# EAGLE library part AS6C4008 (library cpcfpga)
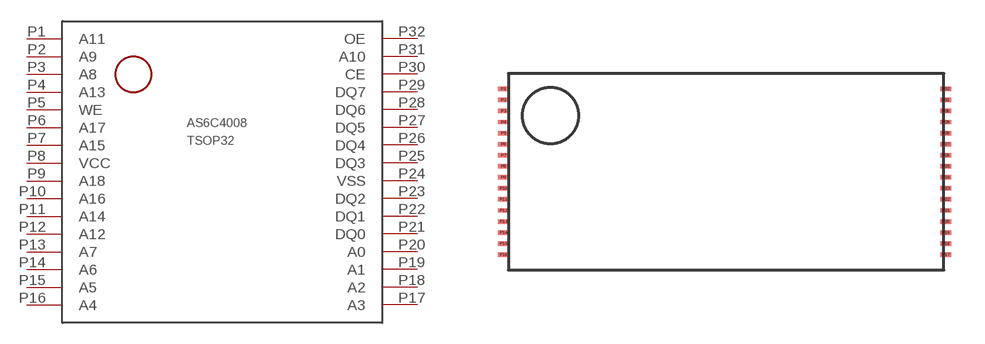
[diagram p2: symbol with the pads of TSOP32; footprint TSOP32]

Designator prefix -

## AS6C4008  [TSOP32]
P1  A11
P2  A9
P3  A8
P4  A13
P5  WE
P6  A17
P7  A15
P8  VCC
P9  A18
P10  A16
P11  A14
P12  A12
P13  A7
P14  A6
P15  A5
P16  A4
P17  A3
P18  A2
P19  A1
P20  A0
P21  DQ0
P22  DQ1
P23  DQ2
P24  VSS
P25  DQ3
P26  DQ4
P27  DQ5
P28  DQ6
P29  DQ7
P30  CE
P31  A10
P32  OE

## Footprint TSOP32 (pad centres in mm)
smd 0.5 x 0.2: P1 -9.75,3.75; P2 -9.75,3.25; P3 -9.75,2.75; P4 -9.75,2.25; P5 -9.75,1.75; P6 -9.75,1.25; P7 -9.75,0.75; P8 -9.75,0.25; P9 -9.75,-0.25; P10 -9.75,-0.75; P11 -9.75,-1.25; P12 -9.75,-1.75; P13 -9.75,-2.25; P14 -9.75,-2.75; P15 -9.75,-3.25; P16 -9.75,-3.75; P17 10.25,-3.75; P18 10.25,-3.25; P19 10.25,-2.75; P20 10.25,-2.25; P21 10.25,-1.75; P22 10.25,-1.25; P23 10.25,-0.75; P24 10.25,-0.25; P25 10.25,0.25; P26 10.25,0.75; P27 10.25,1.25; P28 10.25,1.75; P29 10.25,2.25; P30 10.25,2.75; P31 10.25,3.25; P32 10.25,3.75